# Altium footprint library canbus.PcbLib: 1 footprints
Each footprint in its own frame and in the unit in brackets; x right, y up, seen from the top. Pads: shape width x height; smd on the part's side, far side on the other; paste and mask are expansions set on the pad; w line width, h text height; cw(c..) or ccw(c..) is an arc to the next point about the centre after c.
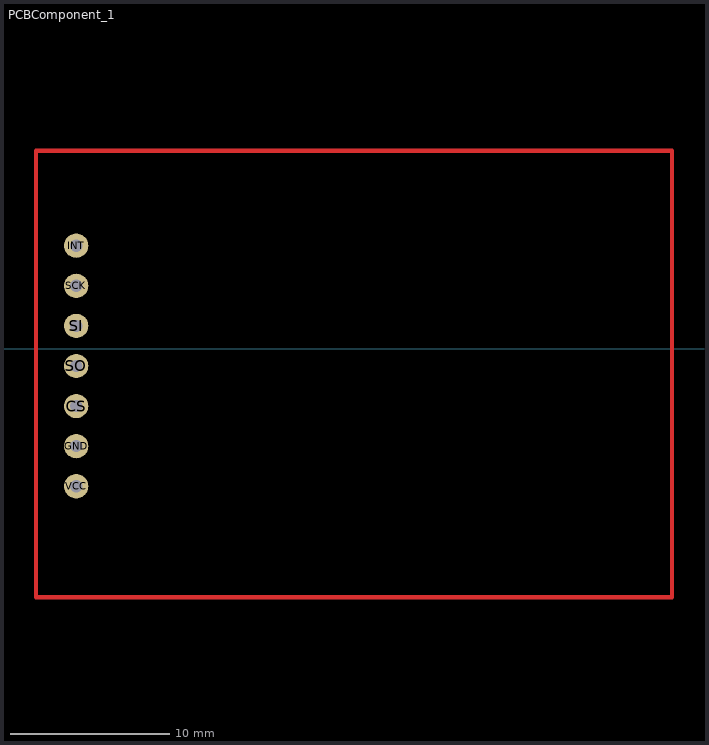
[diagram p0: the footprint, top view; thin cyan lines are the x and y axes]

## PCBComponent_1 [mil]
pads (7):
  round 60 hole 30: CS(-2320.21,-141.85) GND(-2320.21,-241.06) INT(-2320.21,255) SCK(-2320.21,155.79) SI(-2320.21,56.57) SO(-2320.21,-42.64) VCC(-2320.21,-340.28)
Top Layer:
  lines w10: -2420.21,-615 -845.21,-615 -845.21,490 -2420.21,490 -2420.21,-615
Multi-Layer:
  circle w10: c-2315.21,385 r61.02
  circle w10: c-2315.21,-510 r61.02
  circle w10: c-950.21,-510 r61.02
  circle w10: c-950.21,385 r61.02